# EAGLE library part LCD-TFT-1.3-240X240 (library LCD s7789 Library )
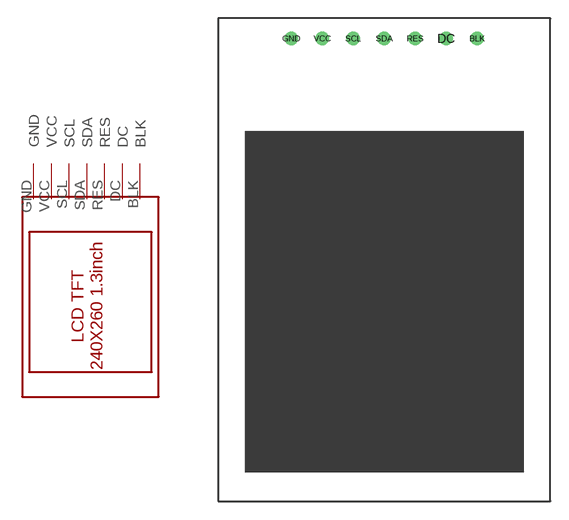
[diagram p0: symbol with the pads of LED-TFT-FOOTPRINT; footprint LED-TFT-FOOTPRINT]

Designator prefix -

## LCD-TFT-1.3-240X240  [LED-TFT-FOOTPRINT]
BLK  BLK
DC  DC
GND  GND
RES  RES
SCL  SCL
SDA  SDA
VCC  VCC

## Footprint LED-TFT-FOOTPRINT (pad centres in mm)
drill 0.6: BLK 7.62,17.78; DC 5.08,17.78; GND -7.62,17.78; RES 2.54,17.78; SCL -2.54,17.78; SDA 0,17.78; VCC -5.08,17.78